# Altium schematic symbol library MMBD4448.Schlib: 4 symbols
Pins are listed as number, name and electrical type; pins without a type are passive.

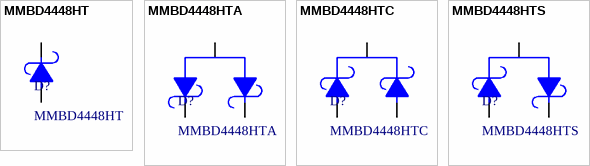
[diagram p0: symbols MMBD4448HT to MMBD4448HTS]

## MMBD4448HT
designator D?
pins: 1, 2

## MMBD4448HTA
designator D?
pins: 1, 2, 3

## MMBD4448HTC
designator D?
pins: 1, 2, 3

## MMBD4448HTS
designator D?
pins: 1, 2, 3